# Altium schematic symbol library HT12E.SchLib: 1 symbol
Pins are listed as number, name and electrical type; pins without a type are passive.

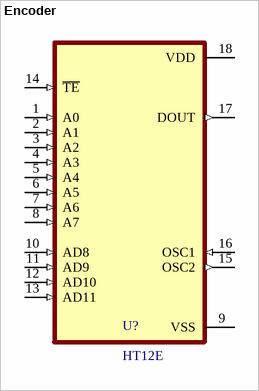
[diagram p0: symbol Encoder]

## Encoder
designator U?, comment HT12E
footprint Encoder (HT12E)
pins: 1 A0 (in), 2 A1 (in), 3 A2 (in), 4 A3 (in), 5 A4 (in), 6 A5 (in), 7 A6 (in), 8 A7 (in), 9 VSS (power), 10 AD8 (in), 11 AD9 (in), 12 AD10 (in), 13 AD11 (in), 14 ~{TE} (in), 15 OSC2 (out), 16 OSC1 (in), 17 DOUT (out), 18 VDD (power)